# Altium integrated library ERA6AEB60R4V.IntLib: 1 symbol
Pins are listed as number, name and electrical type; pins without a type are passive.

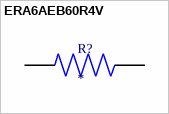
[diagram p0: symbol ERA6AEB60R4V]

## ERA6AEB60R4V
designator R?
MP: ERA6AEB60R4V; Package: None; Value: *; Availability: Unavailable; Price: None
footprint RES_ERA6AEB60R4V
pins: 1, 2